# EAGLE library part ERA_10PIN (library ERA)
ERA 10 PIN
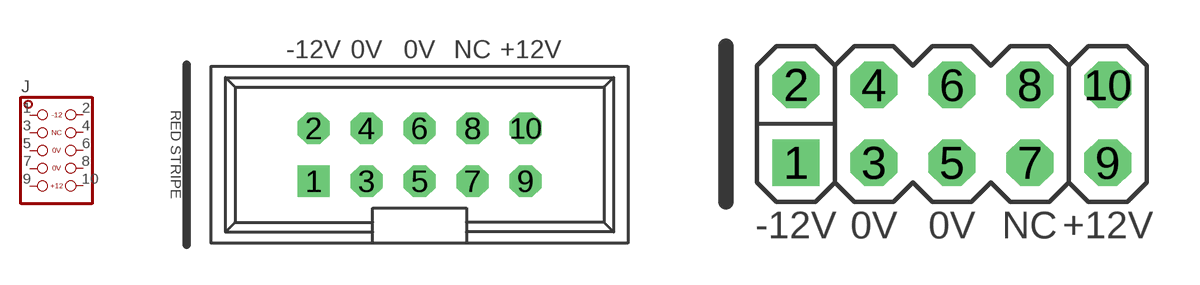
[diagram p2: symbol with the pads of ERA-10-SHROUD; footprints ERA-10-SHROUD, ERA-10-OPEN]

Designator prefix J

## ERA_10PIN-SHROUD  [ERA-10-SHROUD]
1  1  pas
2  2  pas
3  3  pas
4  4  pas
5  5  pas
6  6  pas
7  7  pas
8  8  pas
9  9  pas
10  10  pas

## ERA_10PIN-OPEN  [ERA-10-OPEN]
Pads as for ERA-10-SHROUD

## ERA_10PIN-SMD  [ERA-10-SMD]
Pads as for ERA-10-SHROUD

## Footprint ERA-10-SHROUD (pad centres in mm)
2x05 Shrouded Header
drill 1.016 square: 1 -5.08,-1.27
drill 1.016 octagon: 2 -5.08,1.27; 3 -2.54,-1.27; 4 -2.54,1.27; 5 0,-1.27; 6 0,1.27; 7 2.54,-1.27; 8 2.54,1.27; 9 5.08,-1.27; 10 5.08,1.27

## Footprint ERA-10-OPEN (pad centres in mm)
2x05 Open Header
drill 1.016 square: 1 -5.08,-1.27
drill 1.016 octagon: 2 -5.08,1.27; 3 -2.54,-1.27; 4 -2.54,1.27; 5 0,-1.27; 6 0,1.27; 7 2.54,-1.27; 8 2.54,1.27; 9 5.08,-1.27; 10 5.08,1.27

## Footprint ERA-10-SMD (pad centres in mm)
2x05 SMD Header
smd 1.016 x 3.15: 1 -5.08,-2.54; 2 -5.08,2.54; 3 -2.54,-2.54; 4 -2.54,2.54; 5 0,-2.54; 6 0,2.54; 7 2.54,-2.54; 8 2.54,2.54; 9 5.08,-2.54; 10 5.08,2.54